# Altium footprint library My_Footprint_Lib.PcbLib: 54 footprints (part 2 of 4)
Each footprint in its own frame and in the unit in brackets; x right, y up, seen from the top. Pads: shape width x height; smd on the part's side, far side on the other; paste and mask are expansions set on the pad; w line width, h text height; cw(c..) or ccw(c..) is an arc to the next point about the centre after c.
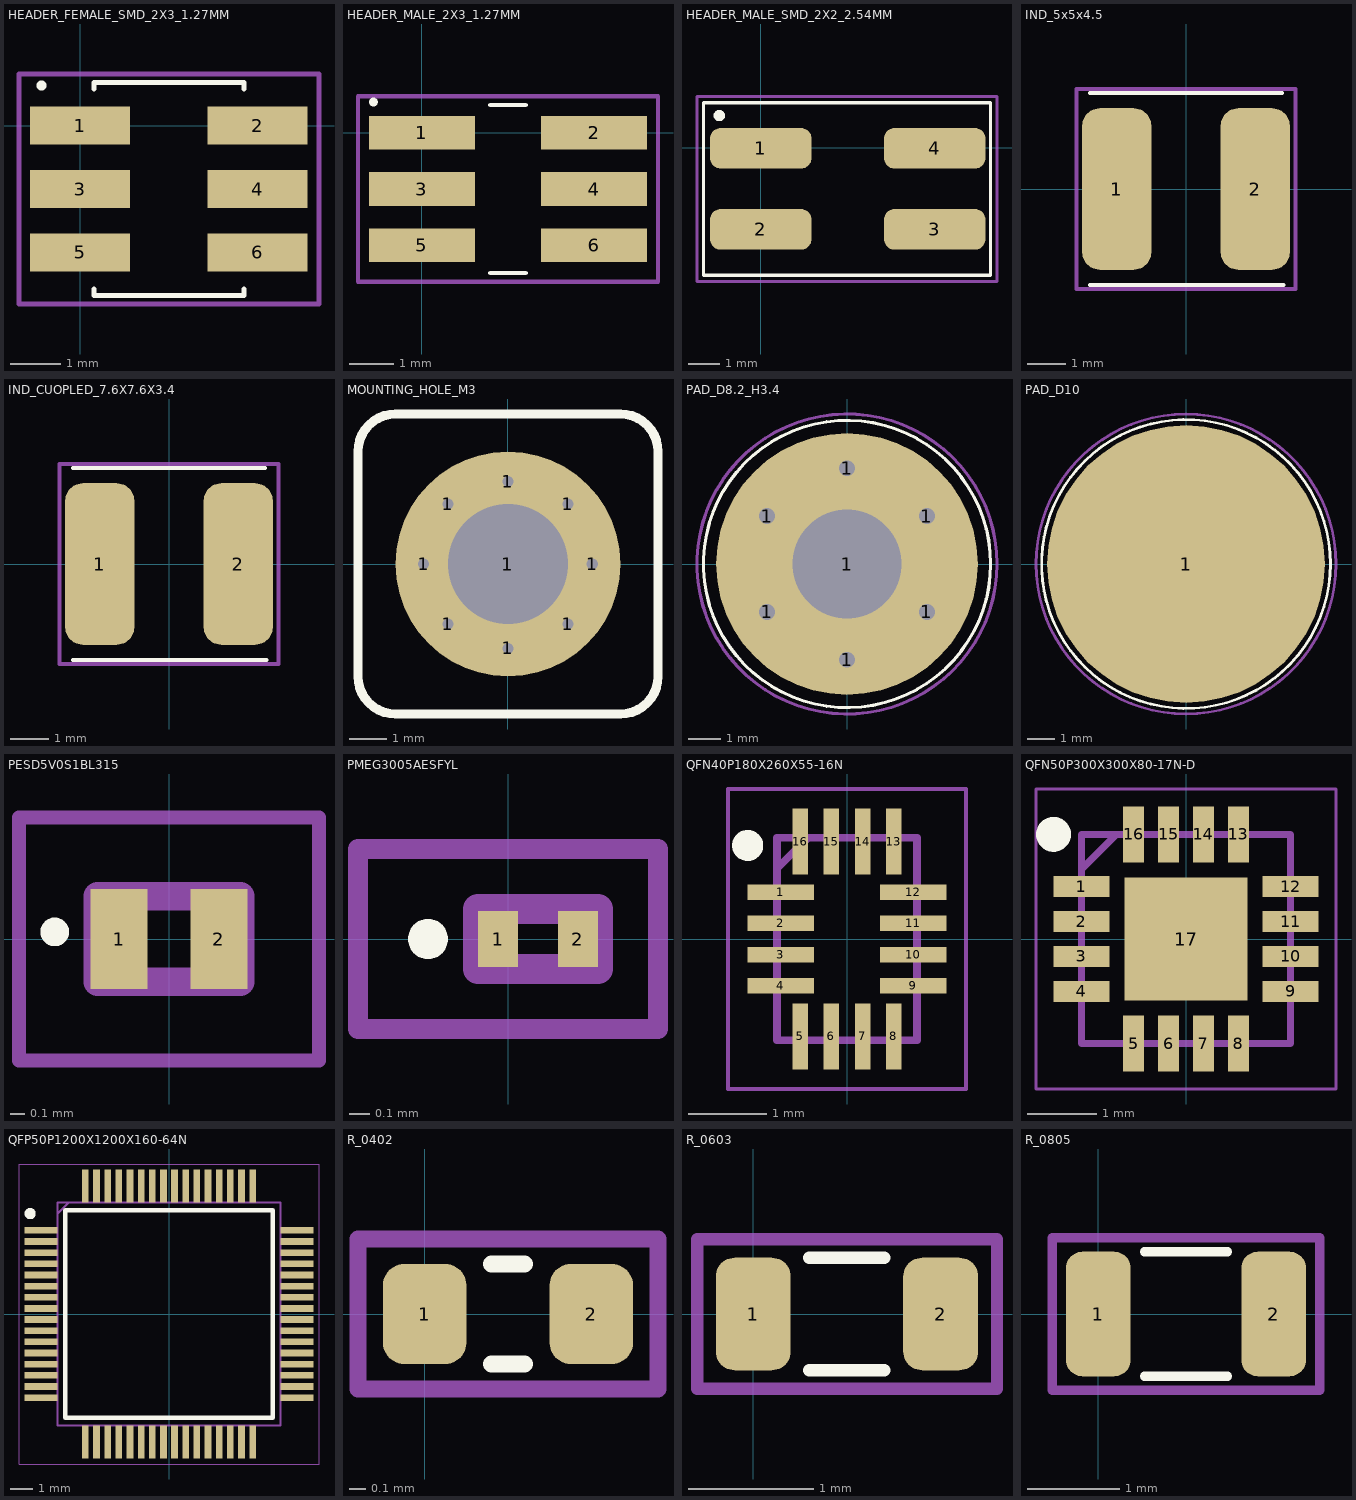
[diagram p1: the footprints below, top view; thin cyan lines are the x and y axes]

## HEADER_FEMALE_SMD_2X3_1.27MM [mm]
pads (6):
  rect 2x0.75 smd: 1(0,0) 2(3.55,0) 3(0,-1.27) 4(3.55,-1.27) 5(0,-2.54) 6(3.55,-2.54)
Top Overlay:
  lines w0.1: 0.275,-3.27 0.275,-3.405 3.275,-3.405 3.275,-3.27 ; 0.275,0.73 0.275,0.865 3.275,0.865 3.275,0.73 ; -0.825,0.8 cw(c-0.775,0.8) -0.725,0.8 cw(c-0.775,0.8) -0.825,0.8
Mechanical 15:
  lines w0.1: -1.225,-3.57 4.775,-3.57 4.775,1.03 -1.225,1.03 -1.225,-3.57
3D body "20021321-00006T4LF.stp": height 4.5, standoff 0, extent -0.475,-3.405 4.025,0.865

## HEADER_MALE_2X3_1.27MM [mm]
pads (6):
  rect 2.4x0.76 smd: 1(0,0) 2(3.9,0) 3(0,-1.27) 4(3.9,-1.27) 5(0,-2.54) 6(3.9,-2.54)
Top Overlay:
  lines w0.1: 1.55,-3.175 2.35,-3.175 ; 1.55,0.635 2.35,0.635 ; -1.15,0.7 ccw(c-1.1,0.7) -1.05,0.7 ccw(c-1.1,0.7) -1.15,0.7
Mechanical 15:
  lines w0.1: -1.45,-3.37 -1.45,0.83 5.35,0.83 5.35,-3.37 -1.45,-3.37
3D body "20021121-00006T4LF.stp": height 4.5, standoff 0, extent -0.8,-3.175 4.7,0.635

## HEADER_MALE_SMD_2X2_2.54MM [mm]
pads (4):
  rrect50% 3.18x1.27 smd: 1(0,-0.025) 2(0,-2.565) 3(5.45,-2.565) 4(5.45,-0.025)
Top Overlay:
  circle w0.254: c-1.3,1 r0.05
  lines w0.1: -1.8,-4 7.2,-4 7.2,1.4 -1.8,1.4 -1.8,-4
Mechanical 15:
  lines w0.1: -2,-4.2 7.4,-4.2 7.4,1.6 -2,1.6 -2,-4.2
3D body "10129383-904001BLF.stp": height 9.54, standoff -0.11, extent -0.985,-3.85 6.385,1.23

## IND_5x5x4.5 [mm]
pads (2):
  rrect50% 1.8x4.2 smd: 1(-1.8,0) 2(1.8,0)
Top Overlay:
  lines w0.1: -2.5,-2.5 2.54,-2.5 ; -2.5,2.5 2.5,2.5
Mechanical 15:
  lines w0.1: -2.85,-2.6 -2.85,2.6 2.85,2.6 2.85,-2.6 -2.85,-2.6
3D body "VLS5045EX-220M.stp": height 4.5, standoff 0, extent -2.5,-2.5 2.5,2.5

## IND_CUOPLED_7.6X7.6X3.4 [mm]
pads (2):
  rrect50% 1.8x4.2 smd: 1(-1.8,0) 2(1.8,0)
Top Overlay:
  lines w0.1: -2.5,-2.5 2.54,-2.5 ; -2.5,2.5 2.5,2.5
Mechanical 15:
  lines w0.1: -2.85,-2.6 2.85,-2.6 2.85,2.6 -2.85,2.6 -2.85,-2.6
3D body "VLS5045EX-220M.stp": height 4.5, standoff 0, extent -2.5,-2.5 2.5,2.5

## MOUNTING_HOLE_M3 [mm]
pads (9):
  round 0.6 hole 0.3: 1(-2.25,0) 1(-1.6,-1.6) 1(-1.6,1.6) 1(0,-2.25) 1(0,2.2) 1(1.6,-1.6) 1(1.6,1.6) 1(2.25,0)
  round 6 hole 3.2: 1(0,0)
Top Overlay:
  lines w0.25: -4,-3 ccw(c-3,-3) -3,-4 3,-4 ccw(c3,-3) 4,-3 4,3 ccw(c3,3) 3,4 -3,4 ccw(c-3,3) -4,3 -4,-3

## PAD_D8.2_H3.4 [mm]
pads (7):
  round 1 hole 0.5: 1(-2.5,-1.5) 1(-2.5,1.5) 1(0,-3) 1(0,3) 1(2.5,-1.5) 1(2.5,1.5)
  round 8.2 hole 3.4: 1(0,0)
Top Overlay:
  circle w0.1: c0,0 r4.5
Mechanical 15:
  circle w0.1: c0,0 r4.7

## PAD_D10 [mm]
pads (1):
  round 10 smd: 1(0,0)
Top Overlay:
  circle w0.1: c0,0 r5.2
Mechanical 15:
  circle w0.1: c0,0 r5.4

## PESD5V0S1BL315 [mm]
pads (2):
  rect 0.4x0.7 smd: 1(-0.35,0) 2(0.35,0)
Top Overlay:
  lines w0.1: -0.8,0 cw(c-0.8,0.05) -0.8,0.1 cw(c-0.8,0.05) -0.8,0
Mechanical 13:
  lines w0.2: -0.5,-0.3 -0.5,0.3 0.5,0.3 0.5,-0.3 -0.5,-0.3
Mechanical 15:
  lines w0.1: -1.05,-0.85 -1.05,0.85 1.05,0.85 1.05,-0.85 -1.05,-0.85
3D body "PESD12VV1BL,315.stp": height 0.47, standoff 0, extent -0.501,-0.302 0.499,0.298

## PMEG3005AESFYL [mm]
pads (2):
  rect 0.2x0.28 smd: 1(-0.05,0) 2(0.35,0)
Top Overlay:
  lines w0.1: -0.4,-0.05 cw(c-0.4,0) -0.4,0.05 cw(c-0.4,0) -0.4,-0.05
Mechanical 13:
  lines w0.15: -0.15,-0.15 -0.15,0.15 0.45,0.15 0.45,-0.15 -0.15,-0.15
Mechanical 15:
  lines w0.1: -0.75,-0.45 -0.75,0.45 0.75,0.45 0.75,-0.45 -0.75,-0.45
3D body "PESD3V3Y1BSFYL.stp": height 0.32, standoff 0, extent -0.162,-0.162 0.462,0.162

## QFN40P180X260X55-16N [mm]
pads (16):
  rect 0.85x0.2 smd: 1(-0.85,0.6) 2(-0.85,0.2) 3(-0.85,-0.2) 4(-0.85,-0.6) 9(0.85,-0.6) 10(0.85,-0.2) 11(0.85,0.2) 12(0.85,0.6)
  rect 0.2x0.85 smd: 5(-0.6,-1.25) 6(-0.2,-1.25) 7(0.2,-1.25) 8(0.6,-1.25) 13(0.6,1.25) 14(0.2,1.25) 15(-0.2,1.25) 16(-0.6,1.25)
Top Overlay:
  circle w0.2: c-1.275,1.2 r0.1
Mechanical 13:
  lines w0.1: -0.9,0.9 -0.5,1.3 ; -0.9,-1.3 -0.9,1.3 0.9,1.3 0.9,-1.3 -0.9,-1.3
Mechanical 15:
  lines w0.05: -1.525,-1.925 -1.525,1.925 1.525,1.925 1.525,-1.925 -1.525,-1.925
3D body "TCA6408ARSVR.stp": height 0.55, standoff 0, extent -0.9,-1.3 0.9,1.3

## QFN50P300X300X80-17N-D [mm]
pads (17):
  rect 0.8x0.3 smd: 1(-1.5,0.75) 2(-1.5,0.25) 3(-1.5,-0.25) 4(-1.5,-0.75) 9(1.5,-0.75) 10(1.5,-0.25) 11(1.5,0.25) 12(1.5,0.75)
  rect 0.3x0.8 smd: 5(-0.75,-1.5) 6(-0.25,-1.5) 7(0.25,-1.5) 8(0.75,-1.5) 13(0.75,1.5) 14(0.25,1.5) 15(-0.25,1.5) 16(-0.75,1.5)
  rect 1.76x1.76 smd: 17(0,0)
Top Overlay:
  circle w0.25: c-1.9,1.5 r0.125
Mechanical 13:
  lines w0.1: -1.5,1 -1,1.5 ; -1.5,-1.5 -1.5,1.5 1.5,1.5 1.5,-1.5 -1.5,-1.5
Mechanical 15:
  lines w0.05: -2.15,-2.15 -2.15,2.15 2.15,2.15 2.15,-2.15 -2.15,-2.15
3D body "TLA2518IRTER.stp": height 0.8, standoff 0, extent -1.55,-1.55 1.55,1.55

## QFP50P1200X1200X160-64N [mm]
pads (64):
  rect 1.475x0.3 smd: 1(-5.738,3.75) 2(-5.738,3.25) 3(-5.738,2.75) 4(-5.738,2.25) 5(-5.738,1.75) 6(-5.738,1.25) 7(-5.738,0.75) 8(-5.738,0.25) 9(-5.738,-0.25) 10(-5.738,-0.75) 11(-5.738,-1.25) 12(-5.738,-1.75) 13(-5.738,-2.25) 14(-5.738,-2.75) 15(-5.738,-3.25) 16(-5.738,-3.75) 33(5.738,-3.75) 34(5.738,-3.25) 35(5.738,-2.75) 36(5.738,-2.25) 37(5.738,-1.75) 38(5.738,-1.25) 39(5.738,-0.75) 40(5.738,-0.25) 41(5.738,0.25) 42(5.738,0.75) 43(5.738,1.25) 44(5.738,1.75) 45(5.738,2.25) 46(5.738,2.75) 47(5.738,3.25) 48(5.738,3.75)
  rect 0.3x1.475 smd: 17(-3.75,-5.738) 18(-3.25,-5.738) 19(-2.75,-5.738) 20(-2.25,-5.738) 21(-1.75,-5.738) 22(-1.25,-5.738) 23(-0.75,-5.738) 24(-0.25,-5.738) 25(0.25,-5.738) 26(0.75,-5.738) 27(1.25,-5.738) 28(1.75,-5.738) 29(2.25,-5.738) 30(2.75,-5.738) 31(3.25,-5.738) 32(3.75,-5.738) 49(3.75,5.738) 50(3.25,5.738) 51(2.75,5.738) 52(2.25,5.738) 53(1.75,5.738) 54(1.25,5.738) 55(0.75,5.738) 56(0.25,5.738) 57(-0.25,5.738) 58(-0.75,5.738) 59(-1.25,5.738) 60(-1.75,5.738) 61(-2.25,5.738) 62(-2.75,5.738) 63(-3.25,5.738) 64(-3.75,5.738)
Top Overlay:
  circle w0.25: c-6.225,4.5 r0.125
  lines w0.2: -4.65,-4.65 -4.65,4.65 4.65,4.65 4.65,-4.65 -4.65,-4.65
Mechanical 13:
  lines w0.1: -5,4.5 -4.5,5 ; -5,-5 -5,5 5,5 5,-5 -5,-5
Mechanical 15:
  lines w0.05: -6.725,-6.725 -6.725,6.725 6.725,6.725 6.725,-6.725 -6.725,-6.725
3D body "STM32F446RET6.stp": height 1.6, standoff 0, extent -6,-6 6,6

## R_0402 [mm]
pads (2):
  rrect50% 0.5x0.6 smd: 1(0,0) 2(1,0)
Top Overlay:
  lines w0.1: 0.4,-0.3 0.6,-0.3 ; 0.4,0.3 0.6,0.3
Mechanical 15:
  lines w0.1: -0.4,-0.45 1.4,-0.45 1.4,0.45 -0.4,0.45 -0.4,-0.45
3D body "RES_0402.stp": height 0.4, standoff 0, extent 0,-0.25 1,0.25

## R_0603 [mm]
pads (2):
  rrect50% 0.6x0.9 smd: 1(0,0) 2(1.5,0)
Top Overlay:
  lines w0.1: 0.45,-0.45 1.05,-0.45 ; 0.45,0.45 1.05,0.45
Mechanical 15:
  lines w0.1: -0.45,-0.6 1.95,-0.6 1.95,0.6 -0.45,0.6 -0.45,-0.6
3D body "RES_0603.stp": height 0.55, standoff 0, extent -0.05,-0.4 1.55,0.4

## R_0805 [mm]
pads (2):
  rrect50% 0.7x1.35 smd: 1(0,0) 2(1.9,0)
Top Overlay:
  lines w0.1: 0.5,-0.675 1.4,-0.675 ; 0.5,0.675 1.4,0.675
Mechanical 15:
  lines w0.1: -0.5,-0.825 2.4,-0.825 2.4,0.825 -0.5,0.825 -0.5,-0.825
3D body "RES_0805.stp": height 0.6, standoff 0, extent -0.075,-0.625 1.975,0.625